# EAGLE library part TPS20*2B (library NewSDR)
Texas Instruments USB Current Limited, Power-Distribution Switches
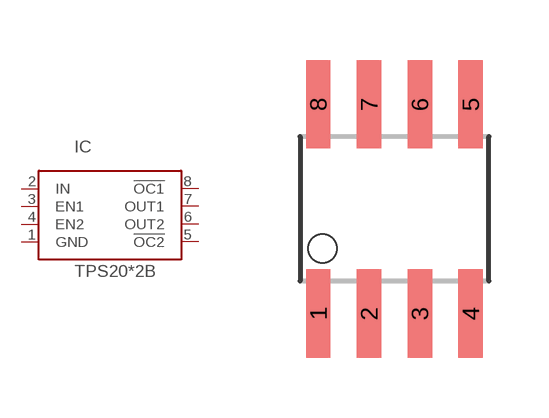
[diagram p183: symbol with the pads of SO8; footprint SO8]

Designator prefix IC

## TPS2052BD  [SO8]
1  GND  pwr
2  IN  pwr
3  EN1  in
4  EN2  in
5  !OC2  out
6  OUT2  pwr
7  OUT1  pwr
8  !OC1  out

## Footprint SO8 (pad centres in mm)
smd 0.61 x 2.21: 1 -1.905,-2.616; 2 -0.635,-2.616; 3 0.635,-2.616; 4 1.905,-2.616; 5 1.905,2.616; 6 0.635,2.616; 7 -0.635,2.616; 8 -1.905,2.616